# EAGLE library part CA3162E (library be_dac)
drawn: Mario Blunk / Blunk electronic
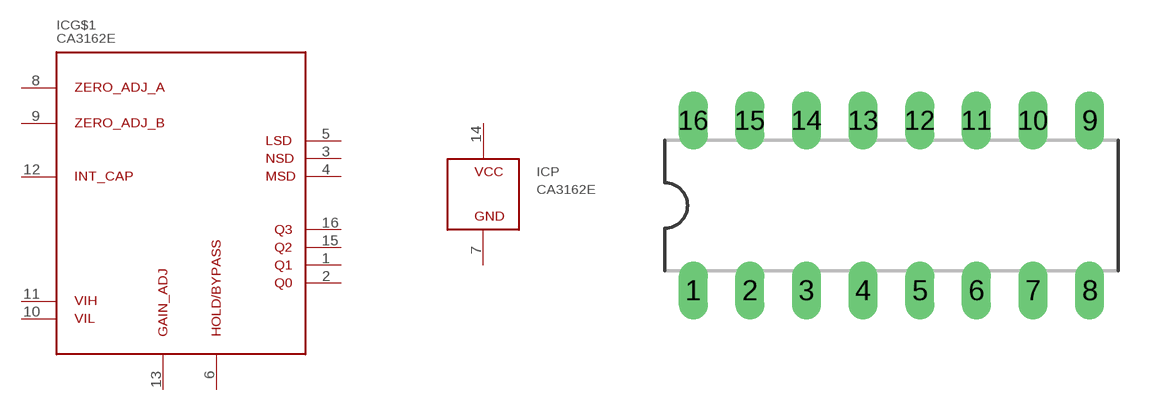
[diagram p2: symbol with the pads of T_NDIP16; footprint T_NDIP16]

Designator prefix IC; gates G$1=CA3162 P=PWR

## CA3162E (BOM: YES; COMMISSIONED: 2015-06-03; PART_CODE_BEL: IC_PAC_T_NDIP16_VAL_CA3162E)  [T_NDIP16]
1  G$1:Q1
2  G$1:Q0
3  G$1:NSD
4  G$1:MSD
5  G$1:LSD
6  G$1:HOLD_BYPASS
7  P:GND  pwr
8  G$1:ZERO_ADJ_A
9  G$1:ZERO_ADJ_B
10  G$1:VIL
11  G$1:VIH
12  G$1:INT_CAP
13  G$1:GAIN_ADJ
14  P:VCC  pwr
15  G$1:Q2
16  G$1:Q3

## Footprint T_NDIP16 (pad centres in mm)
edited: Mario Blunk / Blunk electronic date: 2015-02-03
drill 0.8 long: 1 -8.89,-3.81; 2 -6.35,-3.81; 3 -3.81,-3.81; 4 -1.27,-3.81; 5 1.27,-3.81; 6 3.81,-3.81; 7 6.35,-3.81; 8 8.89,-3.81; 9 8.89,3.81; 10 6.35,3.81; 11 3.81,3.81; 12 1.27,3.81; 13 -1.27,3.81; 14 -3.81,3.81; 15 -6.35,3.81; 16 -8.89,3.81